# EAGLE library part 2-1445057-7 (library 2-1445057-7)
Configuration Features: PCB Mount Orientation Right Angle | Number of Rows 1 | Number of Positions 7 | Number of Power Positions 7 | Contact Features: PCB Contact Termination Area Plating Material Thickness 2.54 MICM | PCB Contact Termination Area Plating Material Tin | Contact Current Rating (Max) 5 AMP | Multiple Contact Types Without | Contact Retention Within Housing Without | Contact Layout Inline | PCB Contact Termination Area Plating Material Thickness 100 MICIN | Contact Mating Area Plating Material Source: Datasheet <https://www.te.com/commerce/DocumentDelivery/DDEController?Action=srchrtrv&DocNm=micro-mate-n-lok-connector-qrg&DocType=Data Sheet&DocLang=English&PartCntxt=2-1445057-7&DocFormat=pdf>
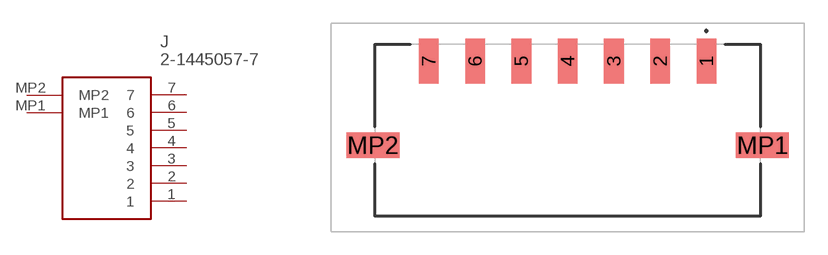
[diagram p0: symbol with the pads of 214450577; footprint 214450577]

Designator prefix J

## 2-1445057-7 (Description: Configuration Features: PCB Mount Orientation Right Angle | Number of Rows 1 | Number of Positions 7 | Number of Power Positions 7 | Contact Features: PCB Contact Termination Area Plating Material Thickness 2.54 MICM | PCB Contact Termination Area Plating Material Tin | Contact Current Rating (Max) 5 AMP | Multiple Contact Types Without | Contact Retention Within Housing Without | Contact Layout Inline | PCB Contact Termination Area Plating Material Thickness 100 MICIN | Contact Mating Area Plating Material; Height: 5.67mm; Manufacturer_Name: TE Connectivity; Manufacturer_Part_Number: 2-1445057-7; Mouser_Part_Number: 571-2-1445057-7; Mouser_Price-Stock: https://www.mouser.co.uk/ProductDetail/TE-Connectivity-AMP/2-1445057-7?qs=Eu63EZxBwKLXHKRdKJ3J%252Bw%3D%3D)  [214450577]
1  1
2  2
3  3
4  4
5  5
6  6
7  7
MP1  MP1
MP2  MP2

## Footprint 214450577 (pad centres in mm)
2-1445057-7-6
smd 1.27 x 2.92: 1 9,4.5; 2 6,4.5; 3 3,4.5; 4 0,4.5; 5 -3,4.5; 6 -6,4.5; 7 -9,4.5
smd 3.43 x 1.65: MP1 12.635,-0.98; MP2 -12.635,-0.98